# Altium schematic symbol library 7621_cmp.SchLib: 16 symbols
Pins are listed as number, name and electrical type; pins without a type are passive.

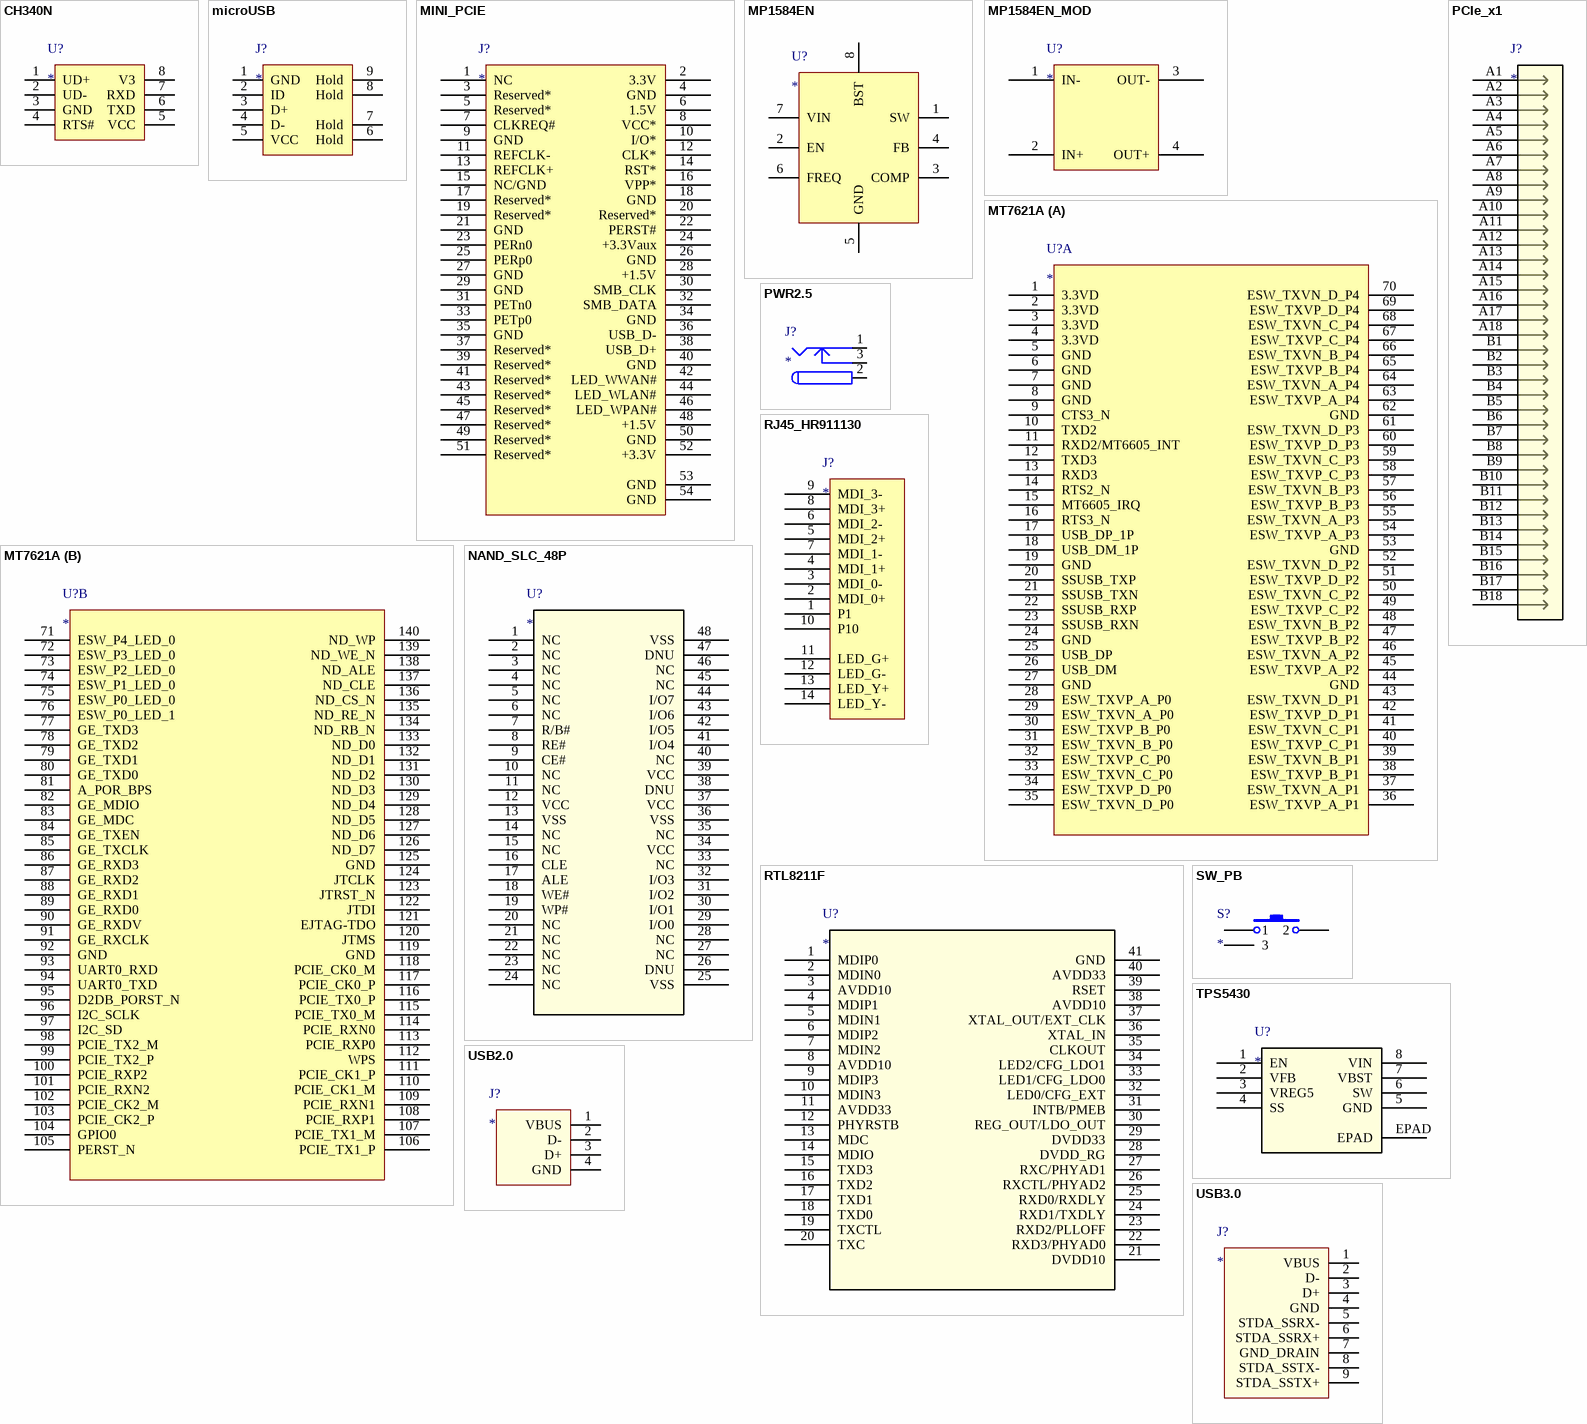
[diagram p0: symbols CH340N to USB3.0]

## CH340N
designator U?
pins: 1 UD+, 2 UD-, 3 GND, 4 RTS#, 5 VCC, 6 TXD, 7 RXD, 8 V3

## microUSB
designator J?
pins: 1 GND, 2 ID, 3 D+, 4 D-, 5 VCC, 6 Hold, 7 Hold, 8 Hold, 9 Hold

## MINI_PCIE
designator J?
pins: 1 NC, 2 3.3V, 3 Reserved*, 4 GND, 5 Reserved*, 6 1.5V, 7 CLKREQ#, 8 VCC*, 9 GND, 10 I/O*, 11 REFCLK-, 12 CLK*, 13 REFCLK+, 14 RST*, 15 NC/GND, 16 VPP*, 17 Reserved*, 18 GND, 19 Reserved*, 20 Reserved*, 21 GND, 22 PERST#, 23 PERn0, 24 +3.3Vaux, 25 PERp0, 26 GND, 27 GND, 28 +1.5V, 29 GND, 30 SMB_CLK, 31 PETn0, 32 SMB_DATA, 33 PETp0, 34 GND, 35 GND, 36 USB_D-, 37 Reserved*, 38 USB_D+, 39 Reserved*, 40 GND, 41 Reserved*, 42 LED_WWAN#, 43 Reserved*, 44 LED_WLAN#, 45 Reserved*, 46 LED_WPAN#, 47 Reserved*, 48 +1.5V, 49 Reserved*, 50 GND, 51 Reserved*, 52 +3.3V, 53 GND, 54 GND

## MP1584EN
designator U?
pins: 1 SW, 2 EN, 3 COMP, 4 FB, 5 GND, 6 FREQ, 7 VIN, 8 BST

## MP1584EN_MOD
designator U?
pins: 1 IN-, 2 IN+, 3 OUT-, 4 OUT+

## MT7621A
designator U?
part A pins: 1 3.3VD, 2 3.3VD, 3 3.3VD, 4 3.3VD, 5 GND, 6 GND, 7 GND, 8 GND, 9 CTS3_N, 10 TXD2, 11 RXD2/MT6605_INT, 12 TXD3, 13 RXD3, 14 RTS2_N, 15 MT6605_IRQ, 16 RTS3_N, 17 USB_DP_1P, 18 USB_DM_1P, 19 GND, 20 SSUSB_TXP, 21 SSUSB_TXN, 22 SSUSB_RXP, 23 SSUSB_RXN, 24 GND, 25 USB_DP, 26 USB_DM, 27 GND, 28 ESW_TXVP_A_P0, 29 ESW_TXVN_A_P0, 30 ESW_TXVP_B_P0, 31 ESW_TXVN_B_P0, 32 ESW_TXVP_C_P0, 33 ESW_TXVN_C_P0, 34 ESW_TXVP_D_P0, 35 ESW_TXVN_D_P0, 36 ESW_TXVP_A_P1, 37 ESW_TXVN_A_P1, 38 ESW_TXVP_B_P1, 39 ESW_TXVN_B_P1, 40 ESW_TXVP_C_P1, 41 ESW_TXVN_C_P1, 42 ESW_TXVP_D_P1, 43 ESW_TXVN_D_P1, 44 GND, 45 ESW_TXVP_A_P2, 46 ESW_TXVN_A_P2, 47 ESW_TXVP_B_P2, 48 ESW_TXVN_B_P2, 49 ESW_TXVP_C_P2, 50 ESW_TXVN_C_P2, 51 ESW_TXVP_D_P2, 52 ESW_TXVN_D_P2, 53 GND, 54 ESW_TXVP_A_P3, 55 ESW_TXVN_A_P3, 56 ESW_TXVP_B_P3, 57 ESW_TXVN_B_P3, 58 ESW_TXVP_C_P3, 59 ESW_TXVN_C_P3, 60 ESW_TXVP_D_P3, 61 ESW_TXVN_D_P3, 62 GND, 63 ESW_TXVP_A_P4, 64 ESW_TXVN_A_P4, 65 ESW_TXVP_B_P4, 66 ESW_TXVN_B_P4, 67 ESW_TXVP_C_P4, 68 ESW_TXVN_C_P4, 69 ESW_TXVP_D_P4, 70 ESW_TXVN_D_P4
part B pins: 71 ESW_P4_LED_0, 72 ESW_P3_LED_0, 73 ESW_P2_LED_0, 74 ESW_P1_LED_0, 75 ESW_P0_LED_0, 76 ESW_P0_LED_1, 77 GE_TXD3, 78 GE_TXD2, 79 GE_TXD1, 80 GE_TXD0, 81 A_POR_BPS, 82 GE_MDIO, 83 GE_MDC, 84 GE_TXEN, 85 GE_TXCLK, 86 GE_RXD3, 87 GE_RXD2, 88 GE_RXD1, 89 GE_RXD0, 90 GE_RXDV, 91 GE_RXCLK, 92 GND, 93 UART0_RXD, 94 UART0_TXD, 95 D2DB_PORST_N, 96 I2C_SCLK, 97 I2C_SD, 98 PCIE_TX2_M, 99 PCIE_TX2_P, 100 PCIE_RXP2, 101 PCIE_RXN2, 102 PCIE_CK2_M, 103 PCIE_CK2_P, 104 GPIO0, 105 PERST_N, 106 PCIE_TX1_P, 107 PCIE_TX1_M, 108 PCIE_RXP1, 109 PCIE_RXN1, 110 PCIE_CK1_M, 111 PCIE_CK1_P, 112 WPS, 113 PCIE_RXP0, 114 PCIE_RXN0, 115 PCIE_TX0_M, 116 PCIE_TX0_P, 117 PCIE_CK0_P, 118 PCIE_CK0_M, 119 GND, 120 JTMS, 121 EJTAG-TDO, 122 JTDI, 123 JTRST_N, 124 JTCLK, 125 GND, 126 ND_D7, 127 ND_D6, 128 ND_D5, 129 ND_D4, 130 ND_D3, 131 ND_D2, 132 ND_D1, 133 ND_D0, 134 ND_RB_N, 135 ND_RE_N, 136 ND_CS_N, 137 ND_CLE, 138 ND_ALE, 139 ND_WE_N, 140 ND_WP

## NAND_SLC_48P
designator U?
pins: 1 NC, 2 NC, 3 NC, 4 NC, 5 NC, 6 NC, 7 R/B#, 8 RE#, 9 CE#, 10 NC, 11 NC, 12 VCC (power), 13 VSS, 14 NC, 15 NC, 16 CLE, 17 ALE, 18 WE#, 19 WP#, 20 NC, 21 NC, 22 NC, 23 NC, 24 NC, 25 VSS, 26 DNU, 27 NC, 28 NC, 29 I/O0, 30 I/O1, 31 I/O2, 32 I/O3, 33 NC, 34 VCC (power), 35 NC, 36 VSS, 37 VCC (power), 38 DNU, 39 VCC (power), 40 NC, 41 I/O4, 42 I/O5, 43 I/O6, 44 I/O7, 45 NC, 46 NC, 47 DNU, 48 VSS

## PCIe_x1
designator J?
pins: A1, A2, A3, A4, A5, A6, A7, A8, A9, A10, A11, A12, A13, A14, A15, A16, A17, A18, B1, B2, B3, B4, B5, B6, B7, B8, B9, B10, B11, B12, B13, B14, B15, B16, B17, B18

## PWR2.5
designator J?
pins: 1 (power), 2 (power), 3 (power)

## RJ45_HR911130
designator J?
pins: 1 P1, 2 MDI_0+, 3 MDI_0-, 4 MDI_1+, 5 MDI_2+, 6 MDI_2-, 7 MDI_1-, 8 MDI_3+, 9 MDI_3-, 10 P10, 11 LED_G+, 12 LED_G-, 13 LED_Y+, 14 LED_Y-

## RTL8211F
designator U?
pins: 1 MDIP0, 2 MDIN0, 3 AVDD10, 4 MDIP1, 5 MDIN1, 6 MDIP2, 7 MDIN2, 8 AVDD10, 9 MDIP3, 10 MDIN3, 11 AVDD33, 12 PHYRSTB, 13 MDC, 14 MDIO, 15 TXD3, 16 TXD2, 17 TXD1, 18 TXD0, 19 TXCTL, 20 TXC, 21 DVDD10, 22 RXD3/PHYAD0, 23 RXD2/PLLOFF, 24 RXD1/TXDLY, 25 RXD0/RXDLY, 26 RXCTL/PHYAD2, 27 RXC/PHYAD1, 28 DVDD_RG, 29 DVDD33, 30 REG_OUT/LDO_OUT, 31 INTB/PMEB, 32 LED0/CFG_EXT, 33 LED1/CFG_LDO0, 34 LED2/CFG_LDO1, 35 CLKOUT, 36 XTAL_IN, 37 XTAL_OUT/EXT_CLK, 38 AVDD10, 39 RSET, 40 AVDD33, 41 GND

## SW_PB
designator S?
pins: 1, 2, 3

## TPS5430
designator U?
pins: 1 EN, 2 VFB, 3 VREG5, 4 SS, 5 GND (power), 6 SW, 7 VBST, 8 VIN, EPAD

## USB2.0
designator J?
pins: 1 VBUS, 2 D-, 3 D+, 4 GND

## USB3.0
designator J?
pins: 1 VBUS, 2 D-, 3 D+, 4 GND, 5 STDA_SSRX-, 6 STDA_SSRX+, 7 GND_DRAIN, 8 STDA_SSTX-, 9 STDA_SSTX+

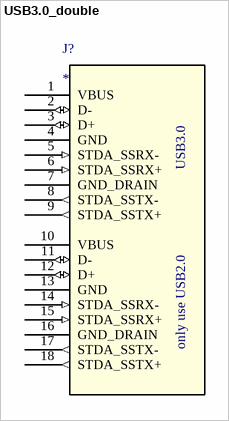
[diagram p1: symbol USB3.0_double]

## USB3.0_double
designator J?
pins: 1 VBUS (power), 2 D- (io), 3 D+ (io), 4 GND, 5 STDA_SSRX- (in), 6 STDA_SSRX+ (in), 7 GND_DRAIN, 8 STDA_SSTX- (out), 9 STDA_SSTX+ (out), 10 VBUS (power), 11 D- (io), 12 D+ (io), 13 GND, 14 STDA_SSRX- (in), 15 STDA_SSRX+ (in), 16 GND_DRAIN, 17 STDA_SSTX- (out), 18 STDA_SSTX+ (out)
text: USB3.0; only use USB2.0